# EAGLE library part TPS737XX (library vikc-ic)
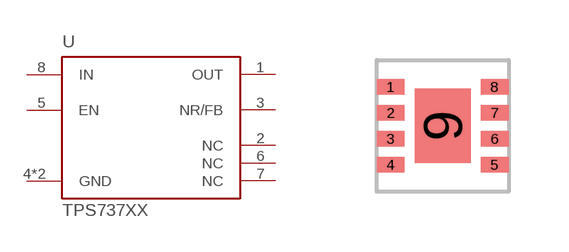
[diagram p1: symbol with the pads of QFN8-DRB; footprint QFN8-DRB]

Designator prefix U

## TPS737XX  [QFN8-DRB]
1  OUT  out
2  NC  nc
3  NR/FB  in
4  GND  pwr
5  EN  in
6  NC  nc
7  NC  nc
8  IN  pwr
9  GND  pwr

## Footprint QFN8-DRB (pad centres in mm)
smd 0.7 x 0.38: 1 -1.3,0.975; 2 -1.3,0.325; 3 -1.3,-0.325; 4 -1.3,-0.975; 5 1.3,-0.975; 6 1.3,-0.325; 7 1.3,0.325; 8 1.3,0.975
smd 1.4 x 1.85: 9 0,0